# Altium schematic symbol library M25P16-SO16P.Schlib: 1 symbol
Pins are listed as number, name and electrical type; pins without a type are passive.

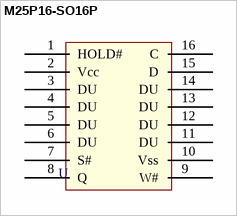
[diagram p0: symbol M25P16-SO16P]

## M25P16-SO16P
designator U  (value not drawn)
pins: 1 HOLD#, 2 Vcc, 3 DU, 4 DU, 5 DU, 6 DU, 7 S#, 8 Q, 9 W#, 10 Vss, 11 DU, 12 DU, 13 DU, 14 DU, 15 D, 16 C